# Altium schematic symbol library 2019-03-20_20-29-51.SchLib: 2 symbols
Pins are listed as number, name and electrical type; pins without a type are passive.

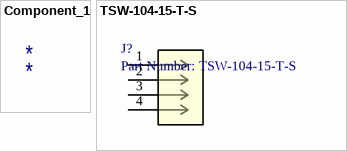
[diagram p0: symbols Component_1 to TSW-104-15-T-S]

## Component_1
designator *

## TSW-104-15-T-S
designator J?, comment Part Number: TSW-104-15-T-S
No Description Available; Vendor: Samtec Inc; Built_By: EMA_UL_Team; Manufacturer_Part_Number: TSW-104-15-T-S; Copyright: Copyright (C) 2018 Accelerated Designs. All rights reserved; RefDes: RefDes; Type: DEV; Value: Value
footprint CON4_1X4_TU_TSW
pins: 1, 2, 3, 4